# Altium schematic symbol library R30k_RCS060330K0FKEA.SchLib: 1 symbol
Pins are listed as number, name and electrical type; pins without a type are passive.

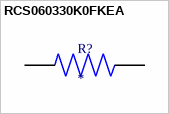
[diagram p0: symbol RCS060330K0FKEA]

## RCS060330K0FKEA
designator R?
30 kOhms Â±1% 0.25W, 1/4W Chip Resistor 0603 (1608 Metric) Automotive AEC-Q200, Pulse Withstanding Thick Film; MF: Vishay; MP: RCS060330K0FKEA; Value: *; Price: None; Package: 1508 Vishay; Purchase-URL: https://pricing.snapeda.com/search/part/RCS060330K0FKEA/?ref=eda; SnapEDA_Link: https://www.snapeda.com/parts/RCS060330K0FKEA/Vishay/view-part/4103522/?ref=snap; Availability: Warning; Check_prices: https://www.snapeda.com/parts/RCS060330K0FKEA/Vishay/view-part/4103522/?ref=eda
footprint RESC1508X50N
pins: 1, 2